# EAGLE library part VG-F24/H7 (library 1A-meinLib)
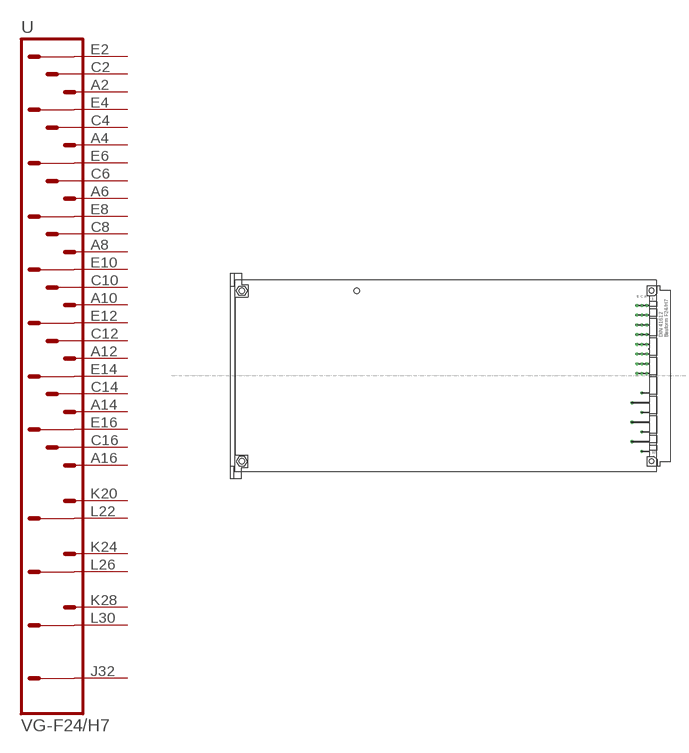
[diagram p64: symbol with the pads of VG-F24/H7; footprint VG-F24/H7]

Designator prefix -

## VG-F24/H7  [VG-F24/H7]
A2  A2  pas
A4  A4  pas
A6  A6  pas
A8  A8  pas
A10  A10  pas
A12  A12  pas
A14  A14  pas
A16  A16  pas
C2  C2  pas
C4  C4  pas
C6  C6  pas
C8  C8  pas
C10  C10  pas
C12  C12  pas
C14  C14  pas
C16  C16  pas
E2  E2  pas
E4  E4  pas
E6  E6  pas
E8  E8  pas
E10  E10  pas
E12  E12  pas
E14  E14  pas
E16  E16  pas
J32  J32  pas
K20  K20  pas
K24  K24  pas
K28  K28  pas
L22  L22  pas
L26  L26  pas
L30  L30  pas

## Footprint VG-F24/H7 (pad centres in mm)
drill 0.914 pad 1.6 octagon: A2 3.81,5.08; A4 3.81,0; A6 3.81,-5.08; A8 3.81,-10.16; A10 3.81,-15.24; A12 3.81,-20.32; A14 3.81,-25.4; A16 3.81,-30.48; C2 1.27,5.08; C4 1.27,0; C6 1.27,-5.08; C8 1.27,-10.16; C10 1.27,-15.24; C12 1.27,-20.32; C14 1.27,-25.4; C16 1.27,-30.48; E2 -1.27,5.08; E4 -1.27,0; E6 -1.27,-5.08; E8 -1.27,-10.16; E10 -1.27,-15.24; E12 -1.27,-20.32; E14 -1.27,-25.4; E16 -1.27,-30.48; J32 1.27,-71.12; K20 1.27,-40.64; K24 1.27,-50.8; K28 1.27,-60.96; L22 -3.81,-45.72; L26 -3.81,-55.88; L30 -3.81,-66.04